# Altium footprint library ESP8266.PcbLib: 12 footprints
Each footprint in its own frame and in the unit in brackets; x right, y up, seen from the top. Pads: shape width x height; smd on the part's side, far side on the other; paste and mask are expansions set on the pad; w line width, h text height; cw(c..) or ccw(c..) is an arc to the next point about the centre after c.
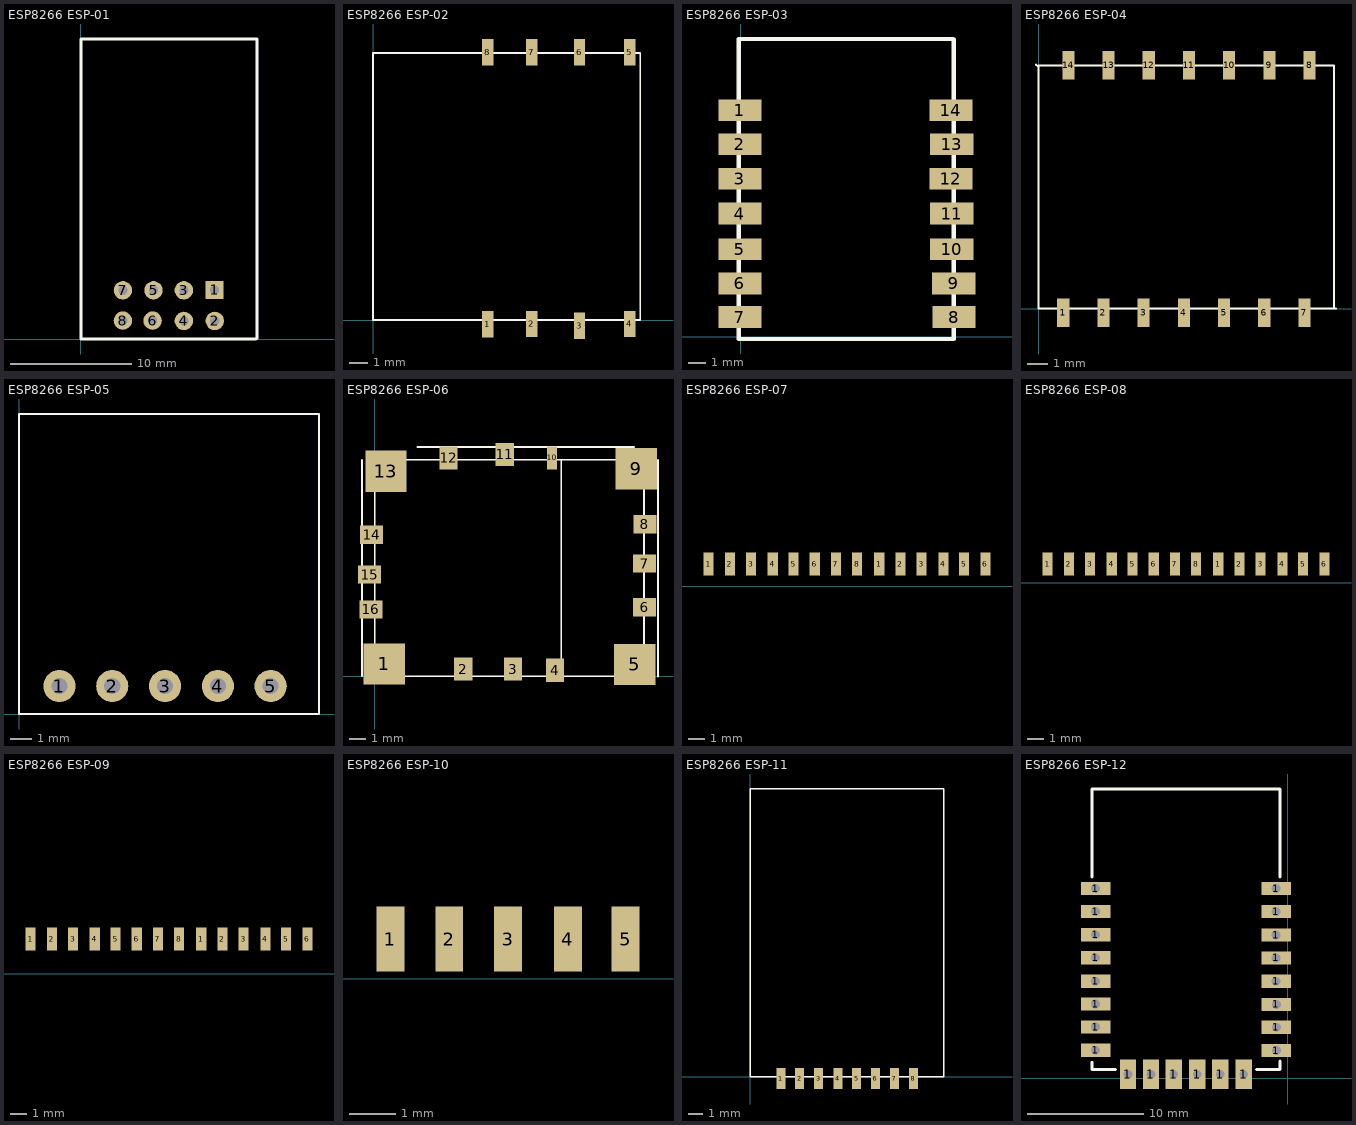
[diagram p0: the footprints below, top view; thin cyan lines are the x and y axes]

## ESP8266 ESP-01 [mil] "ESP8266 ESP-01"
pads (8):
  rect 60x60 hole 30: 1(436,161)
  round 60 hole 30: 2(437,60) 3(336,160) 4(336,60) 5(237,160) 6(234,61) 7(137,160) 8(137,61)
Top Overlay:
  lines w10: 0,1 572,1 575,4 575,980 0,980 0,1
3D body: height 231.4, standoff -228.35, extent 1.13,1.81 572,978.19

## ESP8266 ESP-02 [mil] "ESP8266 ESP-02"
pads (8):
  rect 23.62x55.12 smd: 1(240,-9) 2(332,-8) 3(432,-12) 4(537,-8) 5(537,561) 6(432,561) 7(332,561) 8(240,561)
Top Overlay:
  lines w3.94: 0,0 559.06,0 559.06,559.06 0,559.06 0,0

## ESP8266 ESP-03 [mil] "ESP8266 ESP-03"
pads (14):
  rect 100x50 smd: 1(-2,522) 2(-2,443.27) 3(-2,364) 4(-2,284) 5(-2,202) 6(-2,123) 7(-2,45.57) 8(491,45.57) 9(490,123) 10(486,202) 11(486,284) 12(484,364) 13(486,443.27) 14(484,522)
Top Overlay:
  lines w10: -5,-5 -5,686 489,686 490,685 490,-5 -5,-5
3D body: height 134.34, standoff -1.09, extent -0.97,1 483.28,682.1

## ESP8266 ESP-04 [mm] "ESP8266 ESP-04"
pads (14):
  rect 0.6x1.4 smd: 1(1.229,-0.203) 2(3.229,-0.203) 3(5.229,-0.203) 4(7.229,-0.203) 5(9.229,-0.203) 6(11.229,-0.203) 7(13.229,-0.203) 8(13.483,12.116) 9(11.483,12.116) 10(9.483,12.116) 11(7.483,12.116) 12(5.483,12.116) 13(3.483,12.116) 14(1.483,12.116)
Top Overlay:
  lines w0.1: 14.7,0 14.7,12.1 0,12.1 0,0 14.8,0 ; -0.127,12.141 -0.025,12.04 -0.127,12.141

## ESP8266 ESP-05 [mil] "ESP8266 ESP-05"
pads (5):
  round 60 hole 30: 1(75.3,52) 2(173.72,52) 3(272.15,52) 4(370.57,52) 5(469,52)
Top Overlay:
  lines w3.94: 0,0 559.06,0 559.06,559.06 0,559.06 0,0

## ESP8266 ESP-06 [mil] "ESP8266 ESP-06"
pads (16):
  rect 98.43x98.43 smd: 1(23,29) 5(620,28) 9(623,494) 13(27,488)
  rect 43.31x55.12 smd: 2(211,17) 3(330,17) 4(430,14) 11(310,528) 12(176,520)
  rect 55.12x43.31 smd: 6(643,164) 7(643,268) 8(644,362) 14(-7,337) 15(-12,242) 16(-9,159)
  rect 23.62x55.12 smd: 10(423,520)
Top Overlay:
  lines w3.94: -30,0 -30,515.75 ; 102.25,546 618,546 ; 444.88,-3 444.88,512.75 ; 675,-1 675,514.75 ; 0,0 0,515.75 641.73,515.75 641.73,0 0,0

## ESP8266 ESP-07 [mil] "ESP8266 ESP-01"
pads (14):
  rect 23.62x55.12 smd: 1(130,53) 1(532,53) 2(180,53) 2(582,53) 3(230,53) 3(632,53) 4(281,53) 4(683,53) 5(330,53) 5(732,53) 6(380,53) 6(782,53) 7(430,53) 8(480,53)

## ESP8266 ESP-08 [mil] "ESP8266 ESP-08"
pads (14):
  rect 23.62x55.12 smd: 1(103,44) 1(505,44) 2(153,44) 2(555,44) 3(203,44) 3(605,44) 4(254,44) 4(656,44) 5(303,44) 5(705,44) 6(353,44) 6(755,44) 7(403,44) 8(453,44)

## ESP8266 ESP-09 [mil] "ESP8266 ESP-09"
pads (14):
  rect 23.62x55.12 smd: 1(1017,82) 1(1419,82) 2(1067,82) 2(1469,82) 3(1117,82) 3(1519,82) 4(1168,82) 4(1570,82) 5(1217,82) 5(1619,82) 6(1267,82) 6(1669,82) 7(1317,82) 8(1367,82)

## ESP8266 ESP-10 [mil] "ESP8266 ESP-10"
pads (5):
  rect 23.62x55.12 smd: 1(63,34) 2(113,34) 3(163,34) 4(214,34) 5(263,34)

## ESP8266 ESP-11 [mil] "ESP8266 ESP-11"
pads (8):
  rect 23.62x55.12 smd: 1(81,-5) 2(131,-5) 3(181,-5) 4(232,-5) 5(281,-5) 6(331,-5) 7(381,-5) 8(431,-5)
Top Overlay:
  lines w3.94: 0,0 511.81,0 511.81,759.84 0,759.84 0,0
3D body: height 27.56, standoff 0, extent 0,0 512,760

## ESP8266 ESP-12 [mil] "ESP8266 ESP-02"
pads (22):
  rect 100x45 hole 30: 1(-653,96) 1(-653,175) 1(-653,253) 1(-653,331) 1(-653,411) 1(-653,489) 1(-653,568) 1(-653,646) 1(-39,331) 1(-39,410) 1(-39,488) 1(-39,568) 1(-39,646) 1(-38,95) 1(-38,174) 1(-38,252)
  rect 55x100 hole 30: 1(-543,14) 1(-465,14) 1(-387,14) 1(-307,14) 1(-229,14) 1(-149,14)
Top Overlay:
  lines w10: -665,55 -665,30 -585,30 ; -665,685 -665,985 -25,985 -25,685 ; -105,30 -25,30 -25,60
3D body: height 85.7, standoff -1.17, extent -661,36.56 -31.08,981.44